# EAGLE library part LTM8055* (library uModule-Buck-Boost)
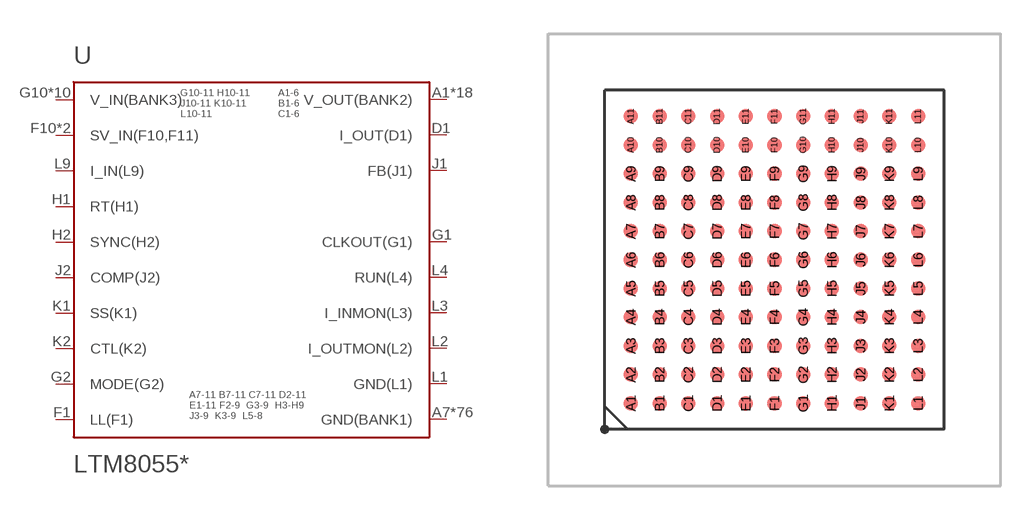
[diagram p0: symbol with the pads of BGA121; footprint BGA121]

Designator prefix U

## LTM8055EY (COMPENSATION: Internal; MFE: Analog Devices; MPN: LTM8055EY; OPERATING_TEMPERATURE: 0 to +125C; TEMPERATURE_RANGE: -40 to +125C), LTM8055EY-1 (COMPENSATION: External; MFE: Analog Devices; MPN: LTM8055EY-1; OPERATING_TEMPERATURE: 0 to +125C; TEMPERATURE_RANGE: -40 to +125C), LTM8055IY (COMPENSATION: Internal; MFE: Analog Devices; MPN: LTM8055IY; OPERATING_TEMPERATURE: -40 to +125C; TEMPERATURE_RANGE: -40 to +125C), LTM8055IY-1 (COMPENSATION: External; MFE: Analog Devices; MPN: LTM8055IY-1; OPERATING_TEMPERATURE: -40 to +125C; TEMPERATURE_RANGE: -40 to +125C), LTM8055MPY (COMPENSATION: Internal; MFE: Analog Devices; MPN: LTM8055MPY; OPERATING_TEMPERATURE: -55 to +125C; TEMPERATURE_RANGE: -55 to +125C)  [BGA121]
A1  V_OUT(BANK2)
A2  V_OUT(BANK2)
A3  V_OUT(BANK2)
A4  V_OUT(BANK2)
A5  V_OUT(BANK2)
A6  V_OUT(BANK2)
A7  GND(BANK1)
A8  GND(BANK1)
A9  GND(BANK1)
A10  GND(BANK1)
A11  GND(BANK1)
B1  V_OUT(BANK2)
B2  V_OUT(BANK2)
B3  V_OUT(BANK2)
B4  V_OUT(BANK2)
B5  V_OUT(BANK2)
B6  V_OUT(BANK2)
B7  GND(BANK1)
B8  GND(BANK1)
B9  GND(BANK1)
B10  GND(BANK1)
B11  GND(BANK1)
C1  V_OUT(BANK2)
C2  V_OUT(BANK2)
C3  V_OUT(BANK2)
C4  V_OUT(BANK2)
C5  V_OUT(BANK2)
C6  V_OUT(BANK2)
C7  GND(BANK1)
C8  GND(BANK1)
C9  GND(BANK1)
C10  GND(BANK1)
C11  GND(BANK1)
D1  I_OUT(D1)
D2  GND(BANK1)
D3  GND(BANK1)
D4  GND(BANK1)
D5  GND(BANK1)
D6  GND(BANK1)
D7  GND(BANK1)
D8  GND(BANK1)
D9  GND(BANK1)
D10  GND(BANK1)
D11  GND(BANK1)
E1  GND(BANK1)
E2  GND(BANK1)
E3  GND(BANK1)
E4  GND(BANK1)
E5  GND(BANK1)
E6  GND(BANK1)
E7  GND(BANK1)
E8  GND(BANK1)
E9  GND(BANK1)
E10  GND(BANK1)
E11  GND(BANK1)
F1  LL(F1)
F2  GND(BANK1)
F3  GND(BANK1)
F4  GND(BANK1)
F5  GND(BANK1)
F6  GND(BANK1)
F7  GND(BANK1)
F8  GND(BANK1)
F9  GND(BANK1)
F10  SV_IN(F10,F11)
F11  SV_IN(F10,F11)
G1  CLKOUT(G1)
G2  MODE(G2)
G3  GND(BANK1)
G4  GND(BANK1)
G5  GND(BANK1)
G6  GND(BANK1)
G7  GND(BANK1)
G8  GND(BANK1)
G9  GND(BANK1)
G10  V_IN(BANK3)
G11  V_IN(BANK3)
H1  RT(H1)
H2  SYNC(H2)
H3  GND(BANK1)
H4  GND(BANK1)
H5  GND(BANK1)
H6  GND(BANK1)
H7  GND(BANK1)
H8  GND(BANK1)
H9  GND(BANK1)
H10  V_IN(BANK3)
H11  V_IN(BANK3)
J1  FB(J1)
J2  COMP(J2)
J3  GND(BANK1)
J4  GND(BANK1)
J5  GND(BANK1)
J6  GND(BANK1)
J7  GND(BANK1)
J8  GND(BANK1)
J9  GND(BANK1)
J10  V_IN(BANK3)
J11  V_IN(BANK3)
K1  SS(K1)
K2  CTL(K2)
K3  GND(BANK1)
K4  GND(BANK1)
K5  GND(BANK1)
K6  GND(BANK1)
K7  GND(BANK1)
K8  GND(BANK1)
K9  GND(BANK1)
K10  V_IN(BANK3)
K11  V_IN(BANK3)
L1  GND(L1)
L2  I_OUTMON(L2)
L3  I_INMON(L3)
L4  RUN(L4)
L5  GND(BANK1)
L6  GND(BANK1)
L7  GND(BANK1)
L8  GND(BANK1)
L9  I_IN(L9)
L10  V_IN(BANK3)
L11  V_IN(BANK3)

## Footprint BGA121 (pad centres in mm)
smd 0.635 x 0.635: A1 -6.35,-6.35; A2 -6.35,-5.08; A3 -6.35,-3.81; A4 -6.35,-2.54; A5 -6.35,-1.27; A6 -6.35,0; A7 -6.35,1.27; A8 -6.35,2.54; A9 -6.35,3.81; A10 -6.35,5.08; A11 -6.35,6.35; B1 -5.08,-6.35; B2 -5.08,-5.08; B3 -5.08,-3.81; B4 -5.08,-2.54; B5 -5.08,-1.27; B6 -5.08,0; B7 -5.08,1.27; B8 -5.08,2.54; B9 -5.08,3.81; B10 -5.08,5.08; B11 -5.08,6.35; C1 -3.81,-6.35; C2 -3.81,-5.08; C3 -3.81,-3.81; C4 -3.81,-2.54; C5 -3.81,-1.27; C6 -3.81,0; C7 -3.81,1.27; C8 -3.81,2.54; C9 -3.81,3.81; C10 -3.81,5.08; C11 -3.81,6.35; D1 -2.54,-6.35; D2 -2.54,-5.08; D3 -2.54,-3.81; D4 -2.54,-2.54; D5 -2.54,-1.27; D6 -2.54,0; D7 -2.54,1.27; D8 -2.54,2.54; D9 -2.54,3.81; D10 -2.54,5.08; D11 -2.54,6.35; E1 -1.27,-6.35; E2 -1.27,-5.08; E3 -1.27,-3.81; E4 -1.27,-2.54; E5 -1.27,-1.27; E6 -1.27,0; E7 -1.27,1.27; E8 -1.27,2.54; E9 -1.27,3.81; E10 -1.27,5.08; E11 -1.27,6.35; F1 0,-6.35; F2 0,-5.08; F3 0,-3.81; F4 0,-2.54; F5 0,-1.27; F6 0,0; F7 0,1.27; F8 0,2.54; F9 0,3.81; F10 0,5.08; F11 0,6.35; G1 1.27,-6.35; G2 1.27,-5.08; G3 1.27,-3.81; G4 1.27,-2.54; G5 1.27,-1.27; G6 1.27,0; G7 1.27,1.27; G8 1.27,2.54; G9 1.27,3.81; G10 1.27,5.08; G11 1.27,6.35; H1 2.54,-6.35; H2 2.54,-5.08; H3 2.54,-3.81; H4 2.54,-2.54; H5 2.54,-1.27; H6 2.54,0; H7 2.54,1.27; H8 2.54,2.54; H9 2.54,3.81; H10 2.54,5.08; H11 2.54,6.35; J1 3.81,-6.35; J2 3.81,-5.08; J3 3.81,-3.81; J4 3.81,-2.54; J5 3.81,-1.27; J6 3.81,0; J7 3.81,1.27; J8 3.81,2.54; J9 3.81,3.81; J10 3.81,5.08; J11 3.81,6.35; K1 5.08,-6.35; K2 5.08,-5.08; K3 5.08,-3.81; K4 5.08,-2.54; K5 5.08,-1.27; K6 5.08,0; K7 5.08,1.27; K8 5.08,2.54; K9 5.08,3.81; K10 5.08,5.08; K11 5.08,6.35; L1 6.35,-6.35; L2 6.35,-5.08; L3 6.35,-3.81; L4 6.35,-2.54; L5 6.35,-1.27; L6 6.35,0; L7 6.35,1.27; L8 6.35,2.54; L9 6.35,3.81; L10 6.35,5.08; L11 6.35,6.35